# EAGLE library part PLUGARPADS (library PLUGAR_pads)
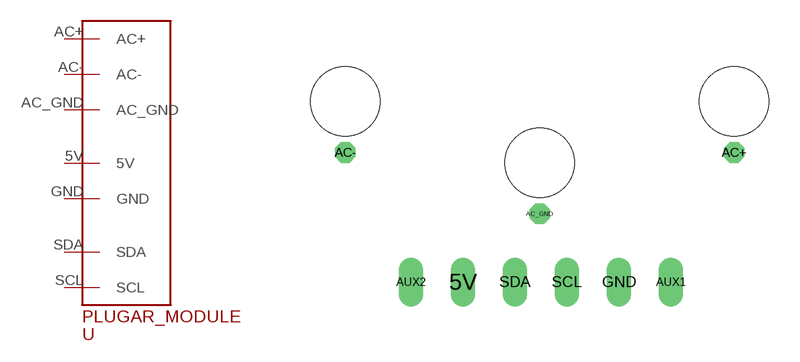
[diagram p0: symbol with the pads of PLUGAR; footprint PLUGAR]

Designator prefix -

## PLUGARPADS  [PLUGAR]
5V  5V
AC+  AC+
AC-  AC-
AC_GND  AC_GND
GND  GND
SCL  SCL
SDA  SDA

## Footprint PLUGAR (pad centres in mm)
Este componente tem as medidas exatas dos conectores que o PLUGAR padroniza.
drill 0.7 long: 5V -3.74,-5.84; AUX1 6.42,-5.84; AUX2 -6.28,-5.84; GND 3.88,-5.84; SCL 1.34,-5.84; SDA -1.2,-5.84
drill 0.5 pad 0.61 octagon: AC+ 9.5,0.5; AC- -9.5,0.5; AC_GND 0,-2.5
hole 3.4 at 0,0
hole 3.4 at 9.5,3
hole 3.4 at -9.5,3